# Altium footprint library APTF1616SEEZGQBDC.PcbLib: 1 footprints
Each footprint in its own frame and in the unit in brackets; x right, y up, seen from the top. Pads: shape width x height; smd on the part's side, far side on the other; paste and mask are expansions set on the pad; w line width, h text height; cw(c..) or ccw(c..) is an arc to the next point about the centre after c.
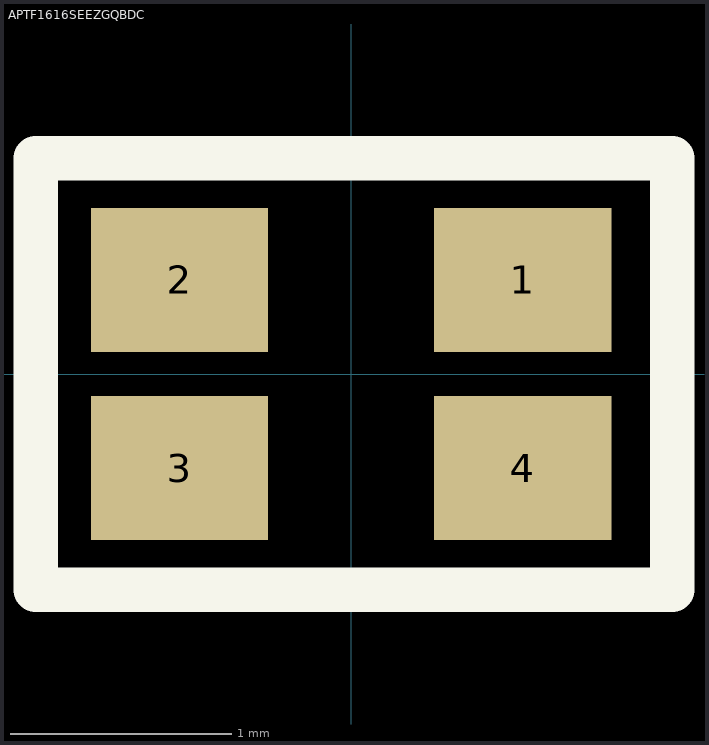
[diagram p0: the footprint, top view; thin cyan lines are the x and y axes]

## APTF1616SEEZGQBDC [mm]
height 0.9
pads (4):
  rect 0.8x0.65 smd: 1(0.775,0.425) 2(-0.775,0.425) 3(-0.775,-0.425) 4(0.775,-0.425)
Top Overlay:
  lines w0.2: -1.425,-0.975 1.45,-0.975 1.45,0.975 -1.425,0.975 -1.425,-0.975
Top Assembly:
  lines w0.1: -1.425,-0.975 1.45,-0.975 1.45,0.975 -1.425,0.975 -1.425,-0.975
  text "'.Designator'" at -0.95,0.075 h0.7
3D body "User Library-LED SMD0603.step": height 0.68, standoff 0, extent -0.8,-0.8 0.85,-0.075
3D body "User Library-LED SMD0603.step": height 0.68, standoff 0, extent -0.8,0.075 0.85,0.8